# Altium footprint library XBee Standard.PcbLib: 1 footprints
Each footprint in its own frame and in the unit in brackets; x right, y up, seen from the top. Pads: shape width x height; smd on the part's side, far side on the other; paste and mask are expansions set on the pad; w line width, h text height; cw(c..) or ccw(c..) is an arc to the next point about the centre after c.
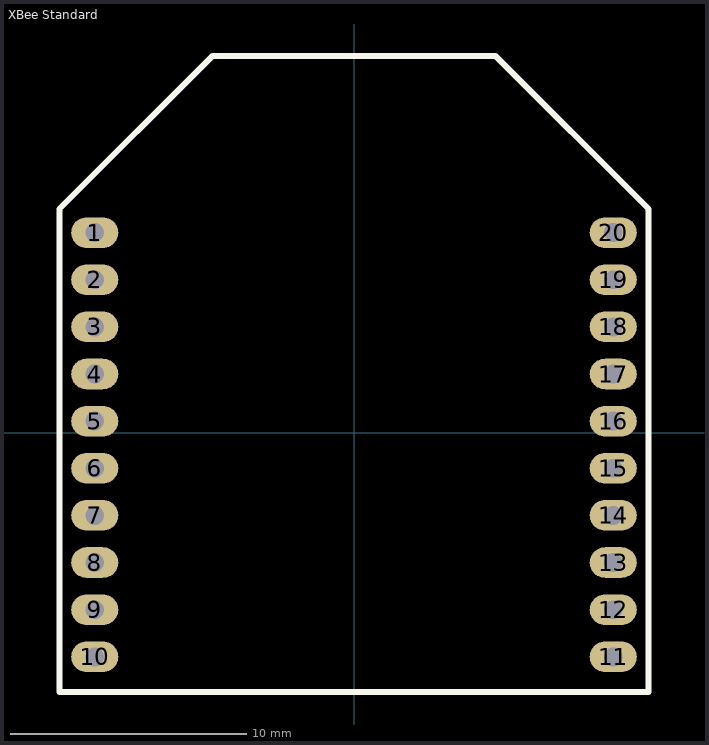
[diagram p0: the footprint, top view; thin cyan lines are the x and y axes]

## XBee Standard [mm]
pads (20):
  oval 2x1.3 hole 0.8: 1(-11,8.5) 2(-11,6.5) 3(-11,4.5) 4(-11,2.5) 5(-11,0.5) 6(-11,-1.5) 7(-11,-3.5) 8(-11,-5.5) 9(-11,-7.5) 10(-11,-9.5) 11(11,-9.5) 12(11,-7.5) 13(11,-5.5) 14(11,-3.5) 15(11,-1.5) 16(11,0.5) 17(11,2.5) 18(11,4.5) 19(11,6.5) 20(11,8.5)
Top Overlay:
  lines w0.254: 12.5,-11 -12.5,-11 -12.5,8.5 -12.5,9.5 -6,16 6,16 12.5,9.5 ; 12.5,-10.9 12.5,9.5 ; 12.5,9.5 12.5,9.5